# EAGLE library part 74*07 (library F030NG)
Hex BUFFER, open collector high-voltage output
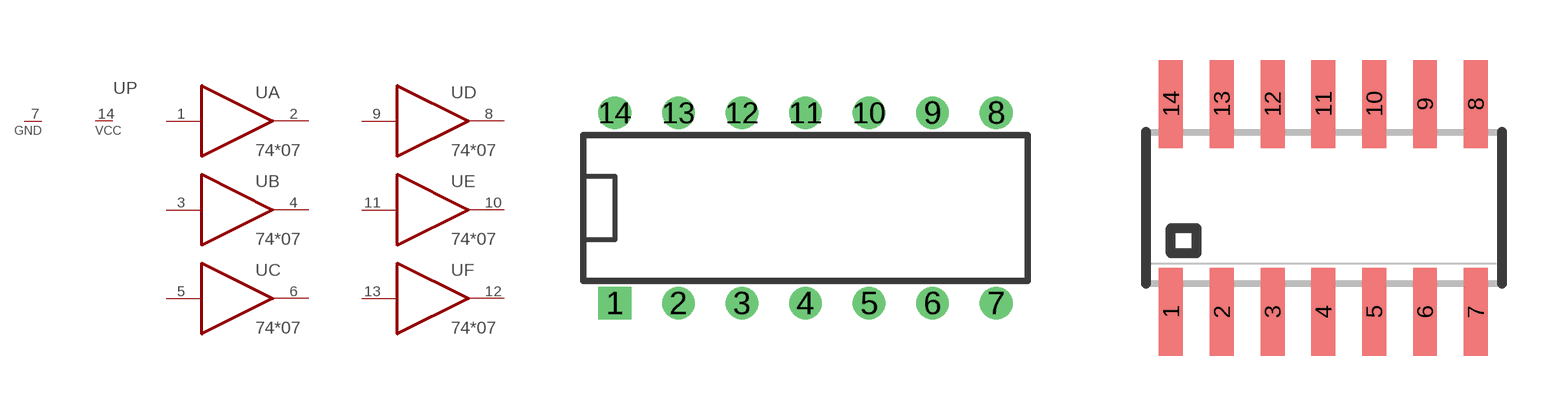
[diagram p79: symbol with the pads of DIL14; footprints DIL14, SO14]

Designator prefix U; gates A=7407 B=7407 C=7407 D=7407 E=7407 F=7407 P=1VCC_1GND

## 7407N, 74LS07N  [DIL14]
1  A:I  in
2  A:O  oc
3  B:I  in
4  B:O  oc
5  C:I  in
6  C:O  oc
7  P:GND  pwr
8  D:O  oc
9  D:I  in
10  E:O  oc
11  E:I  in
12  F:O  oc
13  F:I  in
14  P:VCC  pwr

## 7407D, 74LS07D  [SO14]
Pads as for DIL14

## 7407DBR  [SSOP14]
Pads as for DIL14

## 7407NSR  [SOIC14N]
Pads as for DIL14

## Footprint DIL14 (pad centres in mm)
Dual In Line Package
drill 0.8 square: 1 -7.62,-3.81
drill 0.8: 2 -5.08,-3.81; 3 -2.54,-3.81; 4 0,-3.81; 5 2.54,-3.81; 6 5.08,-3.81; 7 7.62,-3.81; 8 7.62,3.81; 9 5.08,3.81; 10 2.54,3.81; 11 0,3.81; 12 -2.54,3.81; 13 -5.08,3.81; 14 -7.62,3.81

## Footprint SO14 (pad centres in mm)
SMALL OUTLINE INTEGRATED CIRCUIT body 3.9 mm/JEDEC MS-012AA
smd 0.6 x 2.2: 1 -3.81,-2.6; 2 -2.54,-2.6; 3 -1.27,-2.6; 4 0,-2.6; 5 1.27,-2.6; 6 2.54,-2.6; 7 3.81,-2.6; 8 3.81,2.6; 9 2.54,2.6; 10 1.27,2.6; 11 0,2.6; 12 -1.27,2.6; 13 -2.54,2.6; 14 -3.81,2.6

## Footprint SSOP14 (pad centres in mm)
Shrink Small Outline Plastic 16
smd 0.356 x 1.727: 1 -1.95,-3.175; 2 -1.3,-3.175; 3 -0.65,-3.175; 4 0,-3.175; 5 0.65,-3.175; 6 1.3,-3.175; 7 1.95,-3.175; 8 1.95,3.175; 9 1.3,3.175; 10 0.65,3.175; 11 0,3.175; 12 -0.65,3.175; 13 -1.3,3.175; 14 -1.95,3.175

## Footprint SOIC14N (pad centres in mm)
SMALL OUTLINE INTEGRATED CIRCUIT body 3.9 mm/JEDEC MS-012AA
smd 0.65 x 2.2: 1 -3.81,-2.981; 2 -2.54,-2.981; 3 -1.27,-2.981; 4 0,-2.981; 5 1.27,-2.981; 6 2.54,-2.981; 7 3.81,-2.981; 8 3.81,2.981; 9 2.54,2.981; 10 1.27,2.981; 11 0,2.981; 12 -1.27,2.981; 13 -2.54,2.981; 14 -3.81,2.981